# EAGLE library part LM331 (library misc)
Precision Voltage-to-Frequency Converters
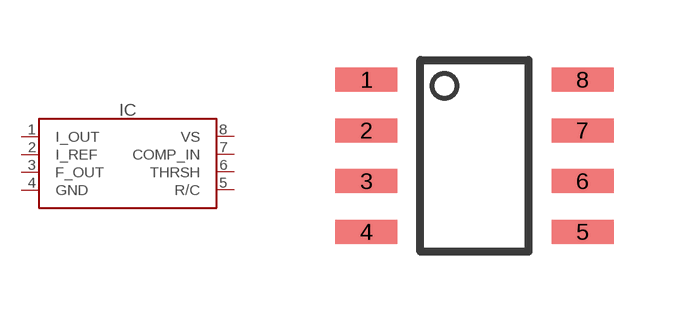
[diagram p29: symbol with the pads of SOIC8; footprint SOIC8]

Designator prefix IC

## LM331  [SOIC8]
1  I_OUT
2  I_REF
3  F_OUT
4  GND
5  R/C
6  THRSH
7  COMP_IN
8  VS

## Footprint SOIC8 (pad centres in mm)
https://www.ti.com/lit/ds/snvsaq5a/snvsaq5a.pdf?ts=1602424164509
smd 1.55 x 0.6: 1 -2.7,1.905; 2 -2.7,0.635; 3 -2.7,-0.635; 4 -2.7,-1.905; 5 2.7,-1.905; 6 2.7,-0.635; 7 2.7,0.635; 8 2.7,1.905